# Altium footprint library Devindia_v4.0.PcbLib: 116 footprints (part 4 of 8)
Each footprint in its own frame and in the unit in brackets; x right, y up, seen from the top. Pads: shape width x height; smd on the part's side, far side on the other; paste and mask are expansions set on the pad; w line width, h text height; cw(c..) or ccw(c..) is an arc to the next point about the centre after c.
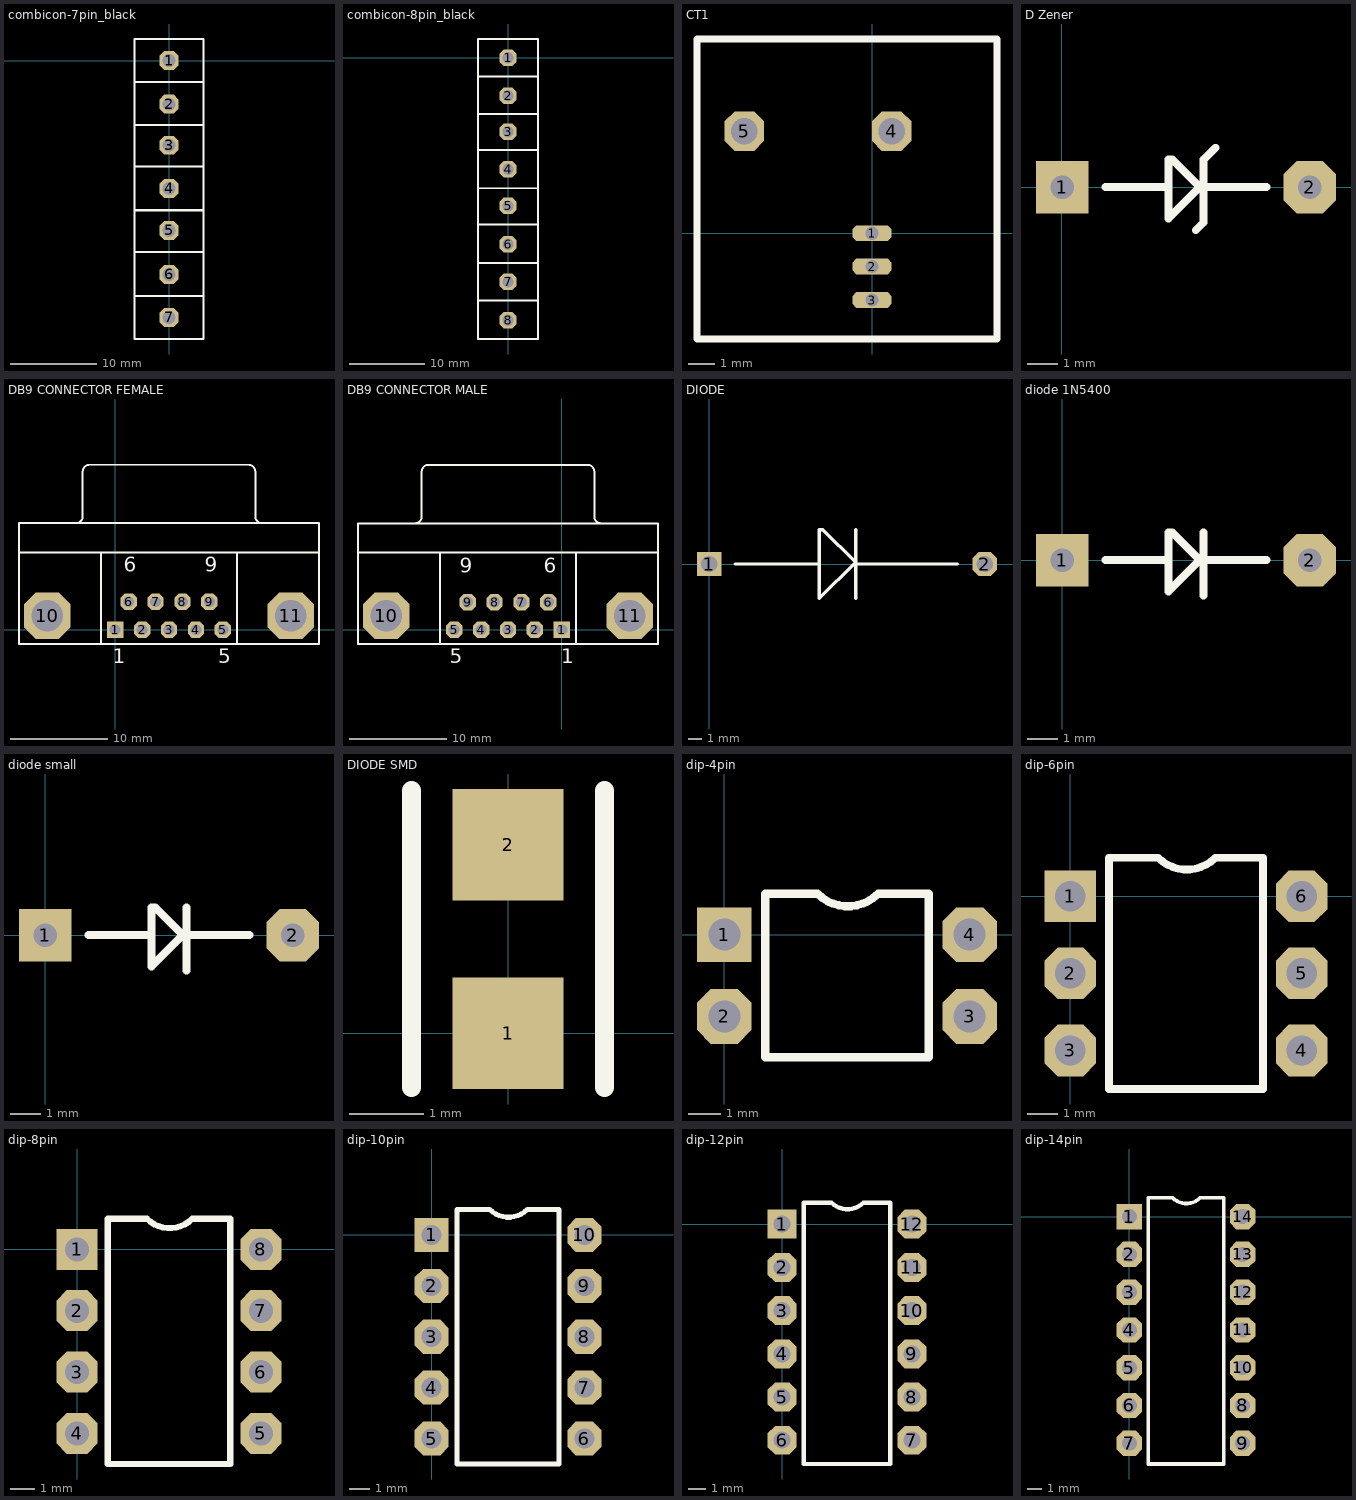
[diagram p3: the footprints below, top view; thin cyan lines are the x and y axes]

## combicon-7pin_black [mm]
pads (7):
  oct 2.2x2.2 hole 1.5: 1(0,0) 2(0,-5.08) 3(0,-9.85) 4(0,-14.875) 5(0,-19.75) 6(0,-24.875) 7(0,-29.875)
Top Overlay:
  lines w0.254: -4,-22.25 4,-22.25 ; -4,-17.4 4,-17.4 ; -4,-12.325 4,-12.325 ; -4,-2.5 4,-2.5 ; -3.925,-27.375 4,-27.375 ; 4,-32.375 4,-27.375 ; -4,-7.5 4,-7.5 ; -4,-7.5 -4,2.5 4,2.5 4,-7.5 ; -4,-7.5 -4,-27.3 -4,-32.375 3.95,-32.375 4,-32.325 4,-27.375 ; 4,-27.375 4,-7.5
3D body: height 8.5, standoff 0, extent -3.937,-2.413 3.937,2.413
3D body: height 8.5, standoff 0, extent -3.937,-7.493 3.937,-2.413
3D body: height 12.4, standoff 8.5, extent -2.677,-32.383 3.992,2.413
3D body: height 12.9, standoff 12.4, extent -1.905,-6.731 1.88,-2.939
3D body: height 12.9, standoff 12.4, extent -1.778,-1.905 2.007,1.887
3D body: height 8.5, standoff 0, extent -3.937,-17.399 3.937,-12.319
3D body: height 8.5, standoff 0, extent -3.937,-12.319 3.937,-7.493
3D body: height 8.5, standoff 0, extent -3.937,-27.305 3.937,-22.225
3D body: height 8.5, standoff 0, extent -3.937,-22.225 3.937,-17.399
3D body: height 12.9, standoff 12.4, extent -1.853,-11.78 1.932,-7.987
3D body: height 12.9, standoff 12.4, extent -1.828,-16.755 1.957,-12.963
3D body: height 12.9, standoff 12.4, extent -1.803,-21.73 1.982,-17.938
3D body: height 12.9, standoff 12.4, extent -1.803,-26.755 1.982,-22.963
3D body: height 8.5, standoff 0, extent -3.937,-32.33 3.937,-27.25
3D body: height 12.9, standoff 12.4, extent -1.803,-31.755 1.982,-27.963

## combicon-8pin_black [mm]
pads (8):
  oct 2.2x2.2 hole 1.5: 1(0,0) 2(0,-5.08) 3(0,-9.85) 4(0,-14.875) 5(0,-19.75) 6(0,-24.875) 7(0,-29.875) 8(0,-35)
Top Overlay:
  lines w0.254: -4,-32.375 3.95,-32.375 4,-32.325 4,-27.375 ; -4,-22.25 4,-22.25 ; -4,-17.4 4,-17.4 ; -4,-12.325 4,-12.325 ; -4,-2.5 4,-2.5 ; -3.925,-27.375 4,-27.375 ; -4,-7.5 -4,-27.3 -4,-37.5 4,-37.5 4,-27.375 ; -4,-7.5 -4,2.5 4,2.5 4,-7.5 ; -4,-7.5 4,-7.5 ; 4,-27.375 4,-7.5
3D body: height 12.9, standoff 12.4, extent -1.803,-36.88 1.982,-33.088
3D body: height 12.9, standoff 12.4, extent -1.803,-31.755 1.982,-27.963
3D body: height 8.5, standoff 0, extent -3.937,-37.405 3.937,-32.325
3D body: height 8.5, standoff 0, extent -3.937,-32.33 3.937,-27.25
3D body: height 12.9, standoff 12.4, extent -1.803,-26.755 1.982,-22.963
3D body: height 12.9, standoff 12.4, extent -1.803,-21.73 1.982,-17.938
3D body: height 12.9, standoff 12.4, extent -1.828,-16.755 1.957,-12.963
3D body: height 12.9, standoff 12.4, extent -1.853,-11.78 1.932,-7.987
3D body: height 8.5, standoff 0, extent -3.937,-22.225 3.937,-17.399
3D body: height 8.5, standoff 0, extent -3.937,-27.305 3.937,-22.225
3D body: height 8.5, standoff 0, extent -3.937,-12.319 3.937,-7.493
3D body: height 8.5, standoff 0, extent -3.937,-17.399 3.937,-12.319
3D body: height 12.9, standoff 12.4, extent -1.778,-1.905 2.007,1.887
3D body: height 12.9, standoff 12.4, extent -1.905,-6.731 1.88,-2.939
3D body: height 12.4, standoff 8.5, extent -2.679,-37.537 4,2.413
3D body: height 8.5, standoff 0, extent -3.937,-7.493 3.937,-2.413
3D body: height 8.5, standoff 0, extent -3.937,-2.413 3.937,2.413

## CT1 [mm]
pads (5):
  oct 1.5x0.6 hole 0.5: 1(0,0) 2(0,-1.27) 3(0,-2.54)
  oct 1.5x1.5 hole 1: 4(0.75,3.88) 5(-4.85,3.88)
Top Overlay:
  lines w0.254: -6.65,-4.02 -6.65,7.38 4.75,7.38 4.75,-4.02 -6.65,-4.02
3D body: height 4.1, standoff 0, extent -0.25,-2.789 0.248,-2.29
3D body: height 4.1, standoff 0, extent -0.25,-1.519 0.248,-1.02
3D body: height 4.1, standoff 0, extent -0.25,-0.249 0.248,0.25
3D body: height 4.1, standoff 0, extent 0.25,3.38 1.246,4.378
3D body: height 4.1, standoff 0, extent -5.35,3.38 -4.354,4.378
3D body: height 12, standoff 4, extent -6.525,-3.895 4.625,7.255

## D Zener [mm]
pads (2):
  rect 1.7x1.7 hole 0.762: 1(0.01,0.009)
  oct 1.7x1.7 hole 0.762: 2(8.011,0.009)
Top Overlay:
  lines w0.254: 1.407,0.009 3.439,0.009 ; 4.328,-1.388 4.582,-1.134 4.582,-1.007 4.582,0.898 4.963,1.279 ; 4.582,0.009 6.614,0.009 ; 3.439,-1.007 4.455,0.009 3.566,0.898 3.439,0.898 3.439,-1.007
3D body: height 2.5, standoff 1.5, extent 7.503,-0.499 8.498,0.497
3D body: height 2.5, standoff 1.5, extent -0.498,-0.499 0.497,0.497
3D body: height 2.5, standoff 1.5, extent 0.107,-0.499 2.757,0.497
3D body: height 2, standoff 0, extent 7.513,-0.499 8.509,0.499
3D body: height 2, standoff 0, extent -0.488,-0.499 0.508,0.499
3D body: height 2.5, standoff 1.5, extent 5.344,-0.489 8.094,0.507
3D body: height 3, standoff 1, extent 5.05,-1.007 5.55,0.985
3D body: height 3, standoff 1, extent 2.55,-1.007 5.05,0.985

## DB9 CONNECTOR FEMALE [mm]
pads (11):
  rect 1.69x1.69 hole 1.09: 1(0,0)
  oct 1.69x1.69 hole 1.09: 2(2.77,0) 3(5.54,0) 4(8.31,0) 5(11.08,0) 6(1.385,2.84) 7(4.155,2.84) 8(6.925,2.84) 9(9.695,2.84)
  oct 4.76x4.76 hole 3.26: 10(-6.955,1.42) 11(18.035,1.42)
Top Overlay:
  lines w0.2: -9.86,7.92 20.94,7.92 ; -4.02,10.925 ccw(c-4.02,11.62) -3.325,11.62 -3.325,16.22 ; -3.32,16.225 cw(c-2.625,16.225) -2.625,16.92 13.705,16.92 cw(c13.705,16.225) 14.4,16.225 ; -1.46,-1.48 -1.46,7.92 ; 12.54,-1.48 12.54,7.92 ; 14.405,16.22 14.405,11.62 ccw(c15.1,11.62) 15.1,10.925 ; -9.86,-1.48 20.94,-1.48 20.94,10.92 -9.86,10.92 -9.86,-1.48
  text "6" at 0.885,5.945 h1.5
  text "9" at 9.195,5.945 h1.5
  text "5" at 10.58,-3.455 h1.5
  text "1" at -0.25,-3.455 h1.5
3D body: height 5.01, standoff 5, extent 14.411,-0.704 20.399,5.272
3D body: height 5.01, standoff 5, extent -9.338,-0.704 -3.35,5.272
3D body: height 15, standoff 0, extent -9.827,7.872 20.907,10.92
3D body: height 5, standoff 0, extent -9.954,-1.526 -1.445,7.872
3D body: height 5, standoff 0, extent 12.525,-1.399 21.034,7.999
3D body: height 15, standoff 13, extent 10.513,-1.526 12.505,7.872
3D body: height 15, standoff 13, extent -1.425,-1.526 0.567,7.872
3D body: height 15, standoff 14, extent -0.429,-1.526 11.636,7.872
3D body: height 14, standoff 0, extent -1.445,-1.526 12.525,7.872
3D body: height 10, standoff 4, extent -3.35,10.92 14.43,16.889
3D body: height 8.5, standoff 7.5, extent -0.546,-0.129 0.45,17.016
3D body: height 8.5, standoff 7.5, extent 2.238,-0.129 3.234,17.016
3D body: height 8.5, standoff 7.5, extent 5.032,-0.129 6.028,17.016
3D body: height 8.5, standoff 7.5, extent 7.826,-0.129 8.822,17.016
3D body: height 8.5, standoff 7.5, extent 10.493,-0.129 11.489,17.016
3D body: height 5.96, standoff 4.96, extent 0.841,2.792 1.837,17.016
3D body: height 5.96, standoff 4.96, extent 3.635,2.792 4.631,17.016
3D body: height 5.96, standoff 4.96, extent 6.429,2.792 7.425,17.016
3D body: height 5.96, standoff 4.96, extent 9.096,2.792 10.092,17.016

## DB9 CONNECTOR MALE [mm]
pads (11):
  rect 1.69x1.69 hole 1.09: 1(0,0)
  oct 1.69x1.69 hole 1.09: 2(-2.77,0) 3(-5.54,0) 4(-8.31,0) 5(-11.08,0) 6(-1.385,2.84) 7(-4.155,2.84) 8(-6.925,2.84) 9(-9.695,2.84)
  oct 4.76x4.76 hole 3.26: 10(-18.035,1.42) 11(6.955,1.42)
Top Overlay:
  lines w0.2: -20.94,7.92 9.86,7.92 ; -15.1,10.925 ccw(c-15.1,11.62) -14.405,11.62 -14.405,16.22 ; -14.4,16.225 cw(c-13.705,16.225) -13.705,16.92 2.625,16.92 cw(c2.625,16.225) 3.32,16.225 ; -12.54,-1.48 -12.54,7.92 ; 1.46,-1.48 1.46,7.92 ; 3.325,16.22 3.325,11.62 ccw(c4.02,11.62) 4.02,10.925 ; -20.94,-1.48 -20.94,10.92 9.86,10.92 9.86,-1.48 -20.94,-1.48
  text "1" at -0.079,-3.431 h1.5
  text "5" at -11.509,-3.431 h1.5
  text "9" at -10.493,5.84 h1.5
  text "6" at -1.857,5.84 h1.5
3D body: height 5.96, standoff 4.96, extent -1.984,2.792 -0.988,17.016
3D body: height 5.96, standoff 4.96, extent -4.651,2.792 -3.655,17.016
3D body: height 5.96, standoff 4.96, extent -7.445,2.792 -6.449,17.016
3D body: height 5.96, standoff 4.96, extent -10.239,2.792 -9.243,17.016
3D body: height 8.5, standoff 7.5, extent -0.587,-0.129 0.409,17.016
3D body: height 8.5, standoff 7.5, extent -3.254,-0.129 -2.258,17.016
3D body: height 8.5, standoff 7.5, extent -6.048,-0.129 -5.052,17.016
3D body: height 8.5, standoff 7.5, extent -8.842,-0.129 -7.846,17.016
3D body: height 8.5, standoff 7.5, extent -11.626,-0.129 -10.63,17.016
3D body: height 10, standoff 4, extent -14.43,10.92 3.35,16.889
3D body: height 14, standoff 0, extent -12.525,-1.526 1.445,7.872
3D body: height 15, standoff 14, extent -11.509,-1.526 0.556,7.872
3D body: height 15, standoff 13, extent -12.505,-1.526 -10.513,7.872
3D body: height 15, standoff 13, extent -0.567,-1.526 1.425,7.872
3D body: height 5, standoff 0, extent 1.445,-1.399 9.954,7.999
3D body: height 5, standoff 0, extent -21.034,-1.526 -12.525,7.872
3D body: height 15, standoff 0, extent -20.907,7.872 9.827,10.92
3D body: height 5.01, standoff 5, extent -20.418,-0.704 -14.43,5.272
3D body: height 5.01, standoff 5, extent 3.331,-0.704 9.319,5.272

## DIODE [mm]
pads (2):
  rect 1.8x1.8 hole 1.2: 1(0,0)
  oct 1.8x1.8 hole 1.2: 2(20.32,0)
Top Overlay:
  lines w0.254: 1.905,0 8.128,0 ; 10.795,-2.54 10.795,2.54 ; 10.795,0 18.288,0 ; 8.128,-2.54 10.795,0.127 8.382,2.54 8.128,2.54 8.128,-2.54
3D body: height 5.59, standoff 0.41, extent 14.005,-2.667 14.605,2.512
3D body: height 3.6, standoff 2.4, extent -0.598,-0.508 0.596,0.687
3D body: height 3.6, standoff 2.4, extent 19.722,-0.508 20.916,0.687
3D body: height 3, standoff 0, extent -0.598,-0.508 0.598,0.69
3D body: height 3, standoff 0, extent 19.722,-0.508 20.918,0.69
3D body: height 3.6, standoff 2.4, extent 14.478,-0.508 20.228,0.687
3D body: height 3.6, standoff 2.4, extent 0.046,-0.635 5.796,0.56
3D body: height 5.59, standoff 0.41, extent 5.532,-2.667 14.032,2.512

## diode 1N5400 [mm]
pads (2):
  rect 1.7x1.7 hole 0.762: 1(0,0)
  oct 1.7x1.7 hole 0.762: 2(8.001,0)
Top Overlay:
  lines w0.254: 1.397,0 3.429,0 ; 4.572,-1.143 4.572,-1.016 4.572,0.889 ; 4.572,0 6.604,0 ; 3.429,-1.016 4.445,0 3.556,0.889 3.429,0.889 3.429,-1.016
3D body: height 2.5, standoff 1.5, extent 7.493,-0.508 8.488,0.488
3D body: height 2.5, standoff 1.5, extent -0.508,-0.508 0.487,0.488
3D body: height 2.5, standoff 1.5, extent 0.097,-0.508 2.747,0.488
3D body: height 2, standoff 0, extent 7.503,-0.508 8.499,0.49
3D body: height 2, standoff 0, extent -0.498,-0.508 0.498,0.49
3D body: height 2.5, standoff 1.5, extent 5.334,-0.498 8.084,0.498
3D body: height 3, standoff 1, extent 2.58,-0.996 5.08,0.996
3D body: height 3, standoff 1, extent 5.088,-1.016 5.588,0.976

## diode small [mm]
pads (2):
  rect 1.7x1.7 hole 0.762: 1(0,0)
  oct 1.7x1.7 hole 0.762: 2(8.001,0)
Top Overlay:
  lines w0.254: 1.397,0 3.429,0 ; 4.572,-1.143 4.572,-1.016 4.572,0.889 ; 4.572,0 6.604,0 ; 3.429,-1.016 4.445,0 3.556,0.889 3.429,0.889 3.429,-1.016
3D body: height 2.5, standoff 1.5, extent 7.493,-0.508 8.488,0.488
3D body: height 2.5, standoff 1.5, extent -0.508,-0.508 0.487,0.488
3D body: height 2.5, standoff 1.5, extent 0.097,-0.508 2.747,0.488
3D body: height 2, standoff 0, extent 7.503,-0.508 8.499,0.49
3D body: height 2, standoff 0, extent -0.498,-0.508 0.498,0.49
3D body: height 2.5, standoff 1.5, extent 5.334,-0.498 8.084,0.498
3D body: height 3, standoff 1, extent 2.58,-0.996 5.08,0.996
3D body: height 3, standoff 1, extent 5.088,-1.016 5.588,0.976

## DIODE SMD [mm]
pads (2):
  rect 1.5x1.5 all layers, no hole: 1(0,0) 2(0,2.54)
Top Overlay:
  lines w0.254: -1.3,-0.73 -1.3,3.27 ; 1.3,-0.73 1.3,3.27
3D body: height 1.15, standoff 0, extent -0.762,0 0.762,2.54
3D body: height 0.05, standoff -0.05, extent 0.762,0.258 0.862,0.758

## dip-4pin [mm]
pads (4):
  rect 1.7x1.7 hole 1: 1(0,0)
  oct 1.7x1.7 hole 1: 2(0,-2.54) 3(7.62,-2.54) 4(7.62,0)
Top Overlay:
  lines w0.254: 1.27,-3.81 6.35,-3.81 6.35,1.27 4.775,1.27 cw(c3.835,2.21) 2.896,1.27 1.27,1.27 1.27,-3.81
3D body: height 2, standoff 1.1, extent 1.27,-3.81 6.35,1.27
3D body: height 1.63, standoff 1.37, extent 0,-0.381 1.905,0.381
3D body: height 1.5, standoff 0, extent -0.127,-0.381 0.127,0.381
3D body: height 1.63, standoff 1.37, extent -0.126,-0.381 0.126,0.381
3D body: height 1.63, standoff 1.37, extent -0.126,-2.921 0.126,-2.159
3D body: height 1.5, standoff 0, extent -0.127,-2.921 0.127,-2.159
3D body: height 1.63, standoff 1.37, extent 0,-2.921 1.905,-2.159
3D body: height 1.63, standoff 1.37, extent 7.494,-2.921 7.746,-2.159
3D body: height 1.5, standoff 0, extent 7.493,-2.921 7.747,-2.159
3D body: height 1.63, standoff 1.37, extent 5.715,-2.921 7.62,-2.159
3D body: height 1.63, standoff 1.37, extent 7.494,-0.381 7.746,0.381
3D body: height 1.5, standoff 0, extent 7.493,-0.381 7.747,0.381
3D body: height 1.63, standoff 1.37, extent 5.715,-0.381 7.62,0.381
3D body: height 2.51, standoff 2.5, extent 2.286,-0.508 3.284,0.488
3D body: height 2.5, standoff 2, extent 1.778,-3.81 5.842,1.27

## dip-6pin [mm]
pads (6):
  rect 1.7x1.7 hole 1: 1(0,0)
  oct 1.7x1.7 hole 1: 2(0,-2.54) 3(0,-5.08) 4(7.62,-5.08) 5(7.62,-2.54) 6(7.62,0)
Top Overlay:
  lines w0.254: 1.27,-6.35 6.35,-6.35 6.35,1.27 4.775,1.27 cw(c3.835,2.21) 2.896,1.27 1.27,1.27 1.27,-6.35
3D body: height 1.63, standoff 1.37, extent -0.127,-2.921 1.778,-2.159
3D body: height 1.63, standoff 1.37, extent -0.127,-0.381 1.778,0.381
3D body: height 1.63, standoff 1.37, extent -0.127,-5.461 1.778,-4.699
3D body: height 1.63, standoff 1.37, extent 5.842,-5.461 7.747,-4.699
3D body: height 1.63, standoff 1.37, extent 5.842,-2.921 7.747,-2.159
3D body: height 1.63, standoff 1.37, extent 5.842,-0.381 7.747,0.381
3D body: height 1.63, standoff 1.37, extent -0.126,-0.381 0.126,0.381
3D body: height 1.5, standoff 0, extent -0.127,-0.381 0.127,0.381
3D body: height 1.63, standoff 1.37, extent -0.126,-2.921 0.126,-2.159
3D body: height 1.5, standoff 0, extent -0.127,-2.921 0.127,-2.159
3D body: height 1.63, standoff 1.37, extent -0.126,-5.461 0.126,-4.699
3D body: height 1.5, standoff 0, extent -0.127,-5.461 0.127,-4.699
3D body: height 1.63, standoff 1.37, extent 7.494,-5.461 7.746,-4.699
3D body: height 1.5, standoff 0, extent 7.493,-5.461 7.747,-4.699
3D body: height 1.63, standoff 1.37, extent 7.494,-2.921 7.746,-2.159
3D body: height 1.5, standoff 0, extent 7.493,-2.921 7.747,-2.159
3D body: height 1.63, standoff 1.37, extent 7.494,-0.381 7.746,0.381
3D body: height 1.5, standoff 0, extent 7.493,-0.381 7.747,0.381
3D body: height 2, standoff 1.1, extent 1.27,-6.35 6.35,1.27
3D body: height 2.51, standoff 2.5, extent 2.041,-0.488 3.039,0.508
3D body: height 2.5, standoff 2, extent 1.778,-6.35 5.842,1.27

## dip-8pin [mm]
pads (8):
  rect 1.7x1.7 hole 1: 1(0,0)
  oct 1.7x1.7 hole 1: 2(0,-2.54) 3(0,-5.08) 4(0,-7.62) 5(7.62,-7.62) 6(7.62,-5.08) 7(7.62,-2.54) 8(7.62,0)
Top Overlay:
  lines w0.254: 1.27,-8.89 1.27,1.27 2.896,1.27 ccw(c3.835,2.21) 4.775,1.27 6.35,1.27 6.35,-8.89 1.27,-8.89
3D body: height 2.5, standoff 2, extent 1.778,-8.89 5.842,1.27
3D body: height 2.51, standoff 2.5, extent 2.041,-0.488 3.039,0.508
3D body: height 2, standoff 1.1, extent 1.27,-8.89 6.35,1.27
3D body: height 1.5, standoff 0, extent 7.493,-0.381 7.747,0.381
3D body: height 1.63, standoff 1.37, extent 7.494,-0.381 7.746,0.381
3D body: height 1.5, standoff 0, extent 7.493,-2.921 7.747,-2.159
3D body: height 1.63, standoff 1.37, extent 7.494,-2.921 7.746,-2.159
3D body: height 1.5, standoff 0, extent 7.493,-5.461 7.747,-4.699
3D body: height 1.63, standoff 1.37, extent 7.494,-5.461 7.746,-4.699
3D body: height 1.5, standoff 0, extent 7.493,-8.001 7.747,-7.239
3D body: height 1.63, standoff 1.37, extent 7.494,-8.001 7.746,-7.239
3D body: height 1.5, standoff 0, extent -0.127,-8.001 0.127,-7.239
3D body: height 1.63, standoff 1.37, extent -0.126,-8.001 0.126,-7.239
3D body: height 1.5, standoff 0, extent -0.127,-5.461 0.127,-4.699
3D body: height 1.63, standoff 1.37, extent -0.126,-5.461 0.126,-4.699
3D body: height 1.5, standoff 0, extent -0.127,-2.921 0.127,-2.159
3D body: height 1.63, standoff 1.37, extent -0.126,-2.921 0.126,-2.159
3D body: height 1.5, standoff 0, extent -0.127,-0.381 0.127,0.381
3D body: height 1.63, standoff 1.37, extent -0.126,-0.381 0.126,0.381
3D body: height 1.63, standoff 1.37, extent 5.842,-0.381 7.747,0.381
3D body: height 1.63, standoff 1.37, extent 5.842,-2.921 7.747,-2.159
3D body: height 1.63, standoff 1.37, extent 5.842,-5.461 7.747,-4.699
3D body: height 1.63, standoff 1.37, extent 5.842,-8.001 7.747,-7.239
3D body: height 1.63, standoff 1.37, extent -0.127,-8.001 1.778,-7.239
3D body: height 1.63, standoff 1.37, extent -0.127,-5.461 1.778,-4.699
3D body: height 1.63, standoff 1.37, extent -0.127,-0.381 1.778,0.381
3D body: height 1.63, standoff 1.37, extent -0.127,-2.921 1.778,-2.159

## dip-10pin [mm]
pads (10):
  rect 1.7x1.7 hole 1: 1(0,0)
  oct 1.7x1.7 hole 1: 2(0,-2.54) 3(0,-5.08) 4(0,-7.62) 5(0,-10.16) 6(7.62,-10.16) 7(7.62,-7.62) 8(7.62,-5.08) 9(7.62,-2.54) 10(7.62,0)
Top Overlay:
  lines w0.254: 1.27,-11.43 6.35,-11.43 6.35,1.27 4.775,1.27 cw(c3.835,2.21) 2.896,1.27 1.27,1.27 1.27,-11.43
3D body: height 1.5, standoff 0, extent 7.493,-5.461 7.747,-4.699
3D body: height 1.63, standoff 1.37, extent 7.494,-5.461 7.746,-4.699
3D body: height 1.63, standoff 1.37, extent 5.842,-5.461 7.747,-4.699
3D body: height 1.63, standoff 1.37, extent -0.127,-2.921 1.778,-2.159
3D body: height 1.63, standoff 1.37, extent -0.127,-0.381 1.778,0.381
3D body: height 1.63, standoff 1.37, extent -0.127,-5.461 1.778,-4.699
3D body: height 1.63, standoff 1.37, extent -0.127,-8.001 1.778,-7.239
3D body: height 1.63, standoff 1.37, extent -0.127,-10.541 1.778,-9.779
3D body: height 1.63, standoff 1.37, extent 5.842,-10.541 7.747,-9.779
3D body: height 1.63, standoff 1.37, extent 5.842,-8.001 7.747,-7.239
3D body: height 1.63, standoff 1.37, extent 5.842,-0.381 7.747,0.381
3D body: height 1.63, standoff 1.37, extent -0.126,-0.381 0.126,0.381
3D body: height 1.5, standoff 0, extent -0.127,-0.381 0.127,0.381
3D body: height 1.63, standoff 1.37, extent -0.126,-2.921 0.126,-2.159
3D body: height 1.5, standoff 0, extent -0.127,-2.921 0.127,-2.159
3D body: height 1.63, standoff 1.37, extent -0.126,-5.461 0.126,-4.699
3D body: height 1.5, standoff 0, extent -0.127,-5.461 0.127,-4.699
3D body: height 1.63, standoff 1.37, extent -0.126,-8.001 0.126,-7.239
3D body: height 1.5, standoff 0, extent -0.127,-8.001 0.127,-7.239
3D body: height 1.63, standoff 1.37, extent -0.126,-10.541 0.126,-9.779
3D body: height 1.5, standoff 0, extent -0.127,-10.541 0.127,-9.779
3D body: height 1.63, standoff 1.37, extent 7.494,-10.541 7.746,-9.779
3D body: height 1.5, standoff 0, extent 7.493,-10.541 7.747,-9.779
3D body: height 1.63, standoff 1.37, extent 7.494,-8.001 7.746,-7.239
3D body: height 1.5, standoff 0, extent 7.493,-8.001 7.747,-7.239
3D body: height 1.63, standoff 1.37, extent 7.494,-0.381 7.746,0.381
3D body: height 1.5, standoff 0, extent 7.493,-0.381 7.747,0.381
3D body: height 2, standoff 1.1, extent 1.27,-11.43 6.35,1.27
3D body: height 2.51, standoff 2.5, extent 2.041,-0.488 3.039,0.508
3D body: height 2.5, standoff 2, extent 1.778,-11.43 5.842,1.27
3D body: height 1.63, standoff 1.37, extent 5.842,-2.921 7.747,-2.159
3D body: height 1.63, standoff 1.37, extent 7.494,-2.921 7.746,-2.159
3D body: height 1.5, standoff 0, extent 7.493,-2.921 7.747,-2.159

## dip-12pin [mm]
pads (12):
  rect 1.7x1.7 hole 1: 1(0,0)
  oct 1.7x1.7 hole 1: 2(0,-2.54) 3(0,-5.08) 4(0,-7.62) 5(0,-10.16) 6(0,-12.7) 7(7.62,-12.7) 8(7.62,-10.16) 9(7.62,-7.62) 10(7.62,-5.08) 11(7.62,-2.54) 12(7.62,0)
Top Overlay:
  lines w0.254: 1.27,-14.097 6.35,-14.097 6.35,1.27 4.775,1.27 cw(c3.835,2.21) 2.896,1.27 1.27,1.27 1.27,-14.097
3D body: height 1.63, standoff 1.37, extent -0.127,-2.921 1.778,-2.159
3D body: height 1.63, standoff 1.37, extent -0.127,-0.381 1.778,0.381
3D body: height 1.63, standoff 1.37, extent -0.127,-5.461 1.778,-4.699
3D body: height 1.63, standoff 1.37, extent -0.127,-8.001 1.778,-7.239
3D body: height 1.63, standoff 1.37, extent -0.127,-10.541 1.778,-9.779
3D body: height 1.63, standoff 1.37, extent -0.127,-13.081 1.778,-12.319
3D body: height 1.63, standoff 1.37, extent 5.842,-13.081 7.747,-12.319
3D body: height 1.63, standoff 1.37, extent 5.842,-10.541 7.747,-9.779
3D body: height 1.63, standoff 1.37, extent 5.842,-5.461 7.747,-4.699
3D body: height 1.63, standoff 1.37, extent 5.842,-2.921 7.747,-2.159
3D body: height 1.63, standoff 1.37, extent 5.842,-0.381 7.747,0.381
3D body: height 1.63, standoff 1.37, extent -0.126,-0.381 0.126,0.381
3D body: height 1.5, standoff 0, extent -0.127,-0.381 0.127,0.381
3D body: height 1.63, standoff 1.37, extent -0.126,-2.921 0.126,-2.159
3D body: height 1.5, standoff 0, extent -0.127,-2.921 0.127,-2.159
3D body: height 1.63, standoff 1.37, extent -0.126,-5.461 0.126,-4.699
3D body: height 1.5, standoff 0, extent -0.127,-5.461 0.127,-4.699
3D body: height 1.63, standoff 1.37, extent -0.126,-8.001 0.126,-7.239
3D body: height 1.5, standoff 0, extent -0.127,-8.001 0.127,-7.239
3D body: height 1.63, standoff 1.37, extent -0.126,-10.541 0.126,-9.779
3D body: height 1.5, standoff 0, extent -0.127,-10.541 0.127,-9.779
3D body: height 1.63, standoff 1.37, extent -0.126,-13.081 0.126,-12.319
3D body: height 1.5, standoff 0, extent -0.127,-13.081 0.127,-12.319
3D body: height 1.63, standoff 1.37, extent 7.494,-13.081 7.746,-12.319
3D body: height 1.5, standoff 0, extent 7.493,-13.081 7.747,-12.319
3D body: height 1.63, standoff 1.37, extent 7.494,-10.541 7.746,-9.779
3D body: height 1.5, standoff 0, extent 7.493,-10.541 7.747,-9.779
3D body: height 1.63, standoff 1.37, extent 7.494,-5.461 7.746,-4.699
3D body: height 1.5, standoff 0, extent 7.493,-5.461 7.747,-4.699
3D body: height 1.63, standoff 1.37, extent 7.494,-2.921 7.746,-2.159
3D body: height 1.5, standoff 0, extent 7.493,-2.921 7.747,-2.159
3D body: height 1.63, standoff 1.37, extent 7.494,-0.381 7.746,0.381
3D body: height 1.5, standoff 0, extent 7.493,-0.381 7.747,0.381
3D body: height 2, standoff 1.1, extent 1.27,-14.097 6.35,1.27
3D body: height 2.51, standoff 2.5, extent 2.041,-0.488 3.039,0.508
3D body: height 2.5, standoff 2, extent 1.778,-13.97 5.842,1.27
3D body: height 1.63, standoff 1.37, extent 5.842,-8.001 7.747,-7.239
3D body: height 1.63, standoff 1.37, extent 7.494,-8.001 7.746,-7.239
3D body: height 1.5, standoff 0, extent 7.493,-8.001 7.747,-7.239

## dip-14pin [mm]
pads (14):
  rect 1.7x1.7 hole 1: 1(0,0)
  oct 1.7x1.7 hole 1: 2(0,-2.54) 3(0,-5.08) 4(0,-7.62) 5(0,-10.16) 6(0,-12.7) 7(0,-15.24) 8(7.62,-12.7) 9(7.62,-15.24) 10(7.62,-10.16) 11(7.62,-7.62) 12(7.62,-5.08) 13(7.62,-2.54) 14(7.62,0)
Top Overlay:
  lines w0.254: 1.27,-16.637 1.27,1.27 2.896,1.27 ccw(c3.835,2.21) 4.775,1.27 6.35,1.27 6.35,-16.637 1.27,-16.637
3D body: height 2.5, standoff 2, extent 1.778,-16.637 5.842,1.27
3D body: height 2.51, standoff 2.5, extent 2.041,-0.488 3.039,0.508
3D body: height 2, standoff 1.1, extent 1.27,-16.51 6.35,1.27
3D body: height 1.5, standoff 0, extent 7.493,-5.461 7.747,-4.699
3D body: height 1.63, standoff 1.37, extent 7.494,-5.461 7.746,-4.699
3D body: height 1.5, standoff 0, extent 7.493,-8.001 7.747,-7.239
3D body: height 1.63, standoff 1.37, extent 7.494,-8.001 7.746,-7.239
3D body: height 1.5, standoff 0, extent 7.493,-10.541 7.747,-9.779
3D body: height 1.63, standoff 1.37, extent 7.494,-10.541 7.746,-9.779
3D body: height 1.5, standoff 0, extent 7.493,-15.621 7.747,-14.859
3D body: height 1.63, standoff 1.37, extent 7.494,-15.621 7.746,-14.859
3D body: height 1.5, standoff 0, extent -0.127,-15.621 0.127,-14.859
3D body: height 1.63, standoff 1.37, extent -0.126,-15.621 0.126,-14.859
3D body: height 1.5, standoff 0, extent -0.127,-13.081 0.127,-12.319
3D body: height 1.63, standoff 1.37, extent -0.126,-13.081 0.126,-12.319
3D body: height 1.5, standoff 0, extent -0.127,-10.541 0.127,-9.779
3D body: height 1.63, standoff 1.37, extent -0.126,-10.541 0.126,-9.779
3D body: height 1.5, standoff 0, extent -0.127,-8.001 0.127,-7.239
3D body: height 1.63, standoff 1.37, extent -0.126,-8.001 0.126,-7.239
3D body: height 1.5, standoff 0, extent -0.127,-5.461 0.127,-4.699
3D body: height 1.63, standoff 1.37, extent -0.126,-5.461 0.126,-4.699
3D body: height 1.5, standoff 0, extent -0.127,-2.921 0.127,-2.159
3D body: height 1.63, standoff 1.37, extent -0.126,-2.921 0.126,-2.159
3D body: height 1.5, standoff 0, extent -0.127,-0.381 0.127,0.381
3D body: height 1.63, standoff 1.37, extent -0.126,-0.381 0.126,0.381
3D body: height 1.63, standoff 1.37, extent 5.842,-5.461 7.747,-4.699
3D body: height 1.63, standoff 1.37, extent 5.842,-8.001 7.747,-7.239
3D body: height 1.63, standoff 1.37, extent 5.842,-10.541 7.747,-9.779
3D body: height 1.63, standoff 1.37, extent 5.842,-15.621 7.747,-14.859
3D body: height 1.63, standoff 1.37, extent -0.127,-15.621 1.778,-14.859
3D body: height 1.63, standoff 1.37, extent -0.127,-13.081 1.778,-12.319
3D body: height 1.63, standoff 1.37, extent -0.127,-10.541 1.778,-9.779
3D body: height 1.63, standoff 1.37, extent -0.127,-8.001 1.778,-7.239
3D body: height 1.63, standoff 1.37, extent -0.127,-5.461 1.778,-4.699
3D body: height 1.63, standoff 1.37, extent -0.127,-0.381 1.778,0.381
3D body: height 1.63, standoff 1.37, extent -0.127,-2.921 1.778,-2.159
3D body: height 1.63, standoff 1.37, extent 7.621,-2.921 7.873,-2.159
3D body: height 1.5, standoff 0, extent 7.62,-2.921 7.874,-2.159
3D body: height 1.63, standoff 1.37, extent 5.842,-2.921 7.747,-2.159
3D body: height 1.63, standoff 1.37, extent 5.842,-0.381 7.747,0.381
3D body: height 1.5, standoff 0, extent 7.62,-0.381 7.874,0.381
3D body: height 1.63, standoff 1.37, extent 7.621,-0.381 7.873,0.381
3D body: height 1.63, standoff 1.37, extent 5.842,-13.081 7.747,-12.319
3D body: height 1.63, standoff 1.37, extent 7.494,-13.081 7.746,-12.319
3D body: height 1.5, standoff 0, extent 7.493,-13.081 7.747,-12.319